# EAGLE library part RJ45-8P8C (library cape)
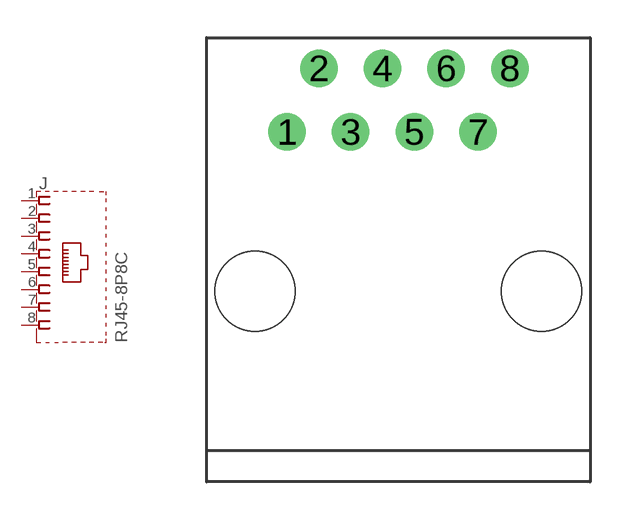
[diagram p3: symbol with the pads of 54602-908LF; footprint 54602-908LF]

Designator prefix J

## RJ45-8P8C  [54602-908LF]
1  8  pas
2  7  pas
3  6  pas
4  5  pas
5  4  pas
6  3  pas
7  2  pas
8  1  pas

## Footprint 54602-908LF (pad centres in mm)
drill 0.76 pad 1.5: 1 -4.445,6.35; 2 -3.175,8.89; 3 -1.905,6.35; 4 -0.635,8.89; 5 0.635,6.35; 6 1.905,8.89; 7 3.175,6.35; 8 4.445,8.89
hole 3.2 at -5.715,0
hole 3.2 at 5.715,0